# EAGLE library part HA9P4905-5Z (library Intersil_By_element14_Batch_1)
Precision Quad Comparators
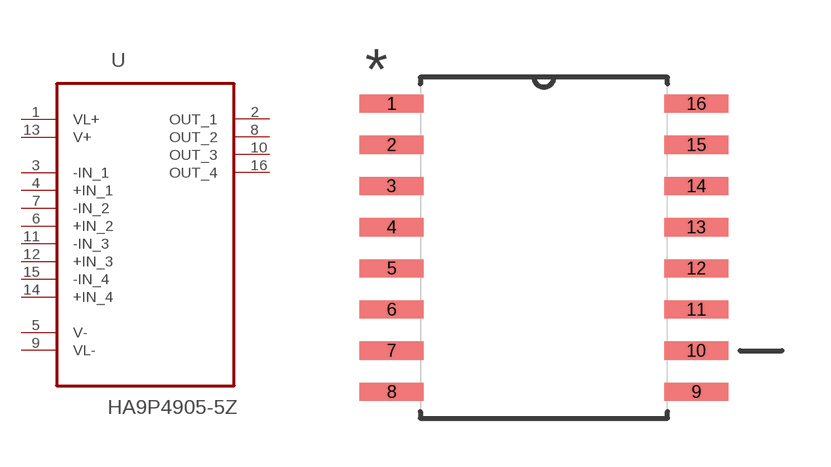
[diagram p100: symbol with the pads of SOIC127P1032X265-16N; footprint SOIC127P1032X265-16N]

Designator prefix U

## HA9P4905-5Z (MPN: HA9P4905-5Z; OC_FARNELL: 1365092; OC_NEWARK: 79K6753; PACKAGE: SOIC-16; SUPPLIER: INTERSIL)  [SOIC127P1032X265-16N]
1  VL+  in
2  OUT_1  out
3  -IN_1  in
4  +IN_1  in
5  V-  pwr
6  +IN_2  in
7  -IN_2  in
8  OUT_2  out
9  VL-  in
10  OUT_3  out
11  -IN_3  in
12  +IN_3  in
13  V+  pwr
14  +IN_4  in
15  -IN_4  in
16  OUT_4  out

## Footprint SOIC127P1032X265-16N (pad centres in mm)
smd 1.981 x 0.559: 1 -4.699,4.445; 2 -4.699,3.175; 3 -4.699,1.905; 4 -4.699,0.635; 5 -4.699,-0.635; 6 -4.699,-1.905; 7 -4.699,-3.175; 8 -4.699,-4.445; 9 4.699,-4.445; 10 4.699,-3.175; 11 4.699,-1.905; 12 4.699,-0.635; 13 4.699,0.635; 14 4.699,1.905; 15 4.699,3.175; 16 4.699,4.445